# EAGLE library part MAG_ENCODER_CON (library Dal_V2)
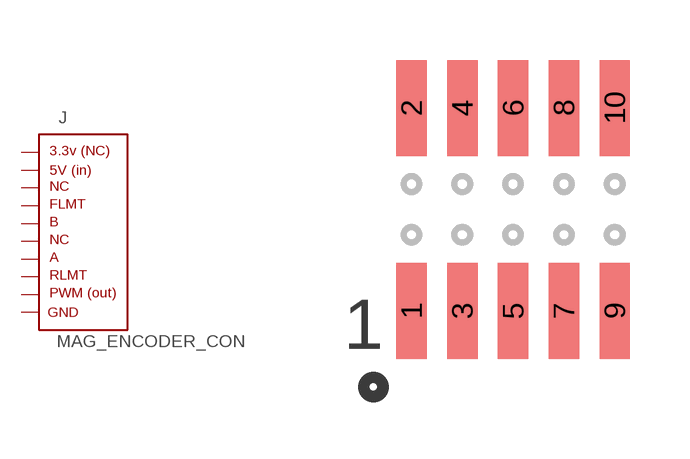
[diagram p18: symbol with the pads of PINHDR_SMD_050_5X2; footprint PINHDR_SMD_050_5X2]

Designator prefix J

## MAG_ENCODER_CON  [PINHDR_SMD_050_5X2]
1  P$1  pas
2  P$2  pas
3  P$3  pas
4  P$4  pas
5  P$5  pas
6  P$6  pas
7  P$7  pas
8  P$8  pas
9  P$9  pas
10  P$10  pas

## Footprint PINHDR_SMD_050_5X2 (pad centres in mm)
Pin header, SMT, 0.05 Pitch, 2x5
smd 0.76 x 2.4: 1 0,-2.54; 2 0,2.54; 3 1.27,-2.54; 4 1.27,2.54; 5 2.54,-2.54; 6 2.54,2.54; 7 3.81,-2.54; 8 3.81,2.54; 9 5.08,-2.54; 10 5.08,2.54